# Altium footprint library LED PCB Lib.PcbLib: 5 footprints
Each footprint in its own frame and in the unit in brackets; x right, y up, seen from the top. Pads: shape width x height; smd on the part's side, far side on the other; paste and mask are expansions set on the pad; w line width, h text height; cw(c..) or ccw(c..) is an arc to the next point about the centre after c.
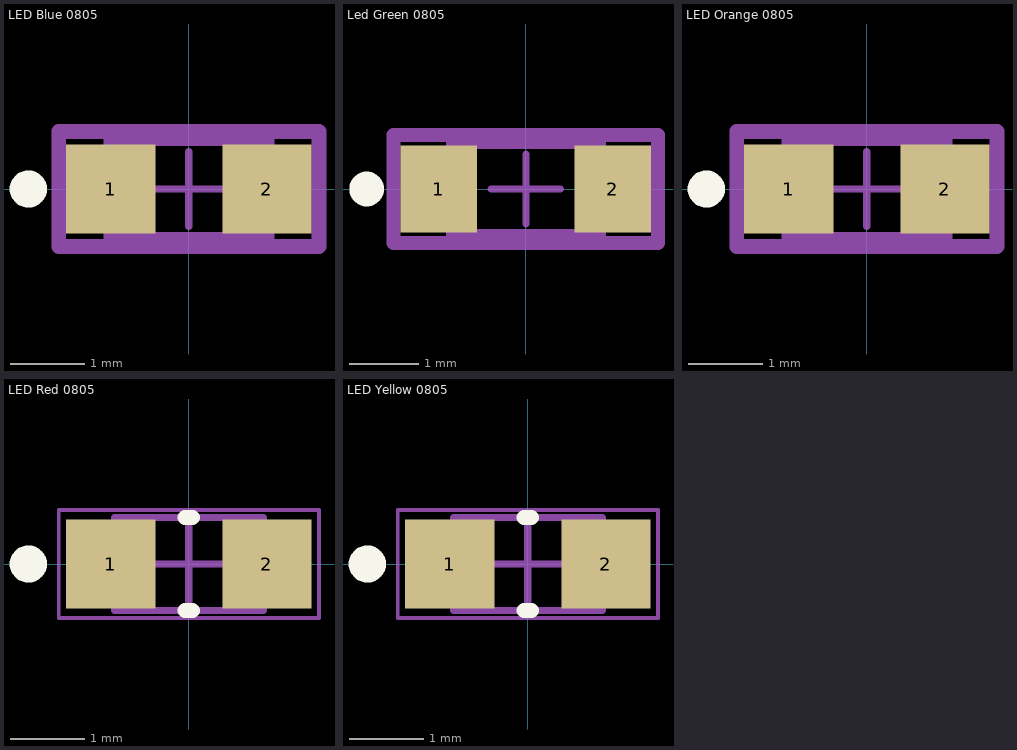
[diagram p0: the footprints below, top view; thin cyan lines are the x and y axes]

## LED Blue 0805 [mm]
pads (2):
  rect 1.2x1.2 smd paste+0 mask+0: 1(-1.05,0) 2(1.05,0)
Top Overlay:
  circle w0.25: c-2.159,0 r0.125
Top Assembly:
  lines w0.2: -1.75,-0.775 1.75,-0.775 1.75,0.775 -1.75,0.775 -1.75,-0.775
Top 3D Body:
  lines w0.2: -1.05,-0.675 1.05,-0.675 1.05,0.675 -1.05,0.675 -1.05,-0.675
Top Courtyard:
  lines w0.2: -1.75,-0.775 1.75,-0.775 1.75,0.775 -1.75,0.775 -1.75,-0.775
Top Component Center:
  lines w0.1: -0.5,0 0.5,0 ; 0,-0.5 0,0.5
3D body "Diode_Lite-On_LTST-C170TBKT_eec.STEP": height 0.25, standoff 0, extent -1.75,-0.775 1.75,0.775

## Led Green 0805 [mm]
pads (2):
  rect 1.1x1.25 smd paste+0 mask+0: 1(-1.25,0) 2(1.25,0)
Top Overlay:
  circle w0.25: c-2.286,0 r0.125
Top Assembly:
  lines w0.2: -1.9,-0.775 1.9,-0.775 1.9,0.775 -1.9,0.775 -1.9,-0.775
Top 3D Body:
  lines w0.2: -1.05,-0.675 1.05,-0.675 1.05,0.675 -1.05,0.675 -1.05,-0.675
Top Courtyard:
  lines w0.2: -1.9,-0.775 1.9,-0.775 1.9,0.775 -1.9,0.775 -1.9,-0.775
Top Component Center:
  lines w0.1: -0.5,0 0.5,0 ; 0,-0.5 0,0.5
3D body "Diode_Lite-On_LTST-C171KGKT_eec.STEP": height 0.25, standoff 0, extent -1.9,-0.775 1.9,0.775

## LED Orange 0805 [mm]
pads (2):
  rect 1.2x1.2 smd paste+0 mask+0: 1(-1.05,0) 2(1.05,0)
Top Overlay:
  circle w0.25: c-2.159,0 r0.125
Top Assembly:
  lines w0.2: -1.75,-0.775 1.75,-0.775 1.75,0.775 -1.75,0.775 -1.75,-0.775
Top 3D Body:
  lines w0.2: -1.05,-0.675 1.05,-0.675 1.05,0.675 -1.05,0.675 -1.05,-0.675
Top Courtyard:
  lines w0.2: -1.75,-0.775 1.75,-0.775 1.75,0.775 -1.75,0.775 -1.75,-0.775
Top Component Center:
  lines w0.1: -0.5,0 0.5,0 ; 0,-0.5 0,0.5
3D body "Diode_Lite-On_LTST-C170KFKT_eec.STEP": height 0.25, standoff 0, extent -1.75,-0.775 1.75,0.775

## LED Red 0805 [mm] "SMD, 2-Leads, Body 2x1.25mm"
height 1.2
pads (2):
  rect 1.2x1.2 smd: 1(-1.05,0) 2(1.05,0)
Top Overlay:
  circle w0.25: c-2.159,0 r0.125
  lines w0.2: -0.051,-0.625 0.051,-0.625 ; -0.051,0.625 0.051,0.625
Top 3D Body:
  lines w0.1: -0.7,-0.625 -0.7,0.625 ; 0.7,-0.625 0.7,0.625 ; -1,-0.625 -1,0.625 1,0.625 1,-0.625 -1,-0.625
Top Courtyard:
  lines w0.05: -1.75,-0.725 1.75,-0.725 1.75,0.725 -1.75,0.725 -1.75,-0.725
  lines w0.1: -0.5,0 0.5,0 ; 0,-0.5 0,0.5
3D body: height 0.5, standoff 0, extent -1,-0.625 1,0.625
3D body: height 1.2, standoff 0.5, extent -0.7,-0.625 0.7,0.625

## LED Yellow 0805 [mm] "SMD, 2-Leads, Body 2x1.25mm"
height 1.2
pads (2):
  rect 1.2x1.2 smd: 1(-1.05,0) 2(1.05,0)
Top Overlay:
  circle w0.25: c-2.159,0 r0.125
  lines w0.2: -0.051,-0.625 0.051,-0.625 ; -0.051,0.625 0.051,0.625
Top 3D Body:
  lines w0.1: -0.7,-0.625 -0.7,0.625 ; 0.7,-0.625 0.7,0.625 ; -1,-0.625 -1,0.625 1,0.625 1,-0.625 -1,-0.625
Top Courtyard:
  lines w0.05: -1.75,-0.725 1.75,-0.725 1.75,0.725 -1.75,0.725 -1.75,-0.725
  lines w0.1: -0.5,0 0.5,0 ; 0,-0.5 0,0.5
3D body: height 0.5, standoff 0, extent -1,-0.625 1,0.625
3D body: height 1.2, standoff 0.5, extent -0.7,-0.625 0.7,0.625